# Altium footprint library CE_10.8X8.5MM.PcbLib: 1 footprints
Each footprint in its own frame and in the unit in brackets; x right, y up, seen from the top. Pads: shape width x height; smd on the part's side, far side on the other; paste and mask are expansions set on the pad; w line width, h text height; cw(c..) or ccw(c..) is an arc to the next point about the centre after c.
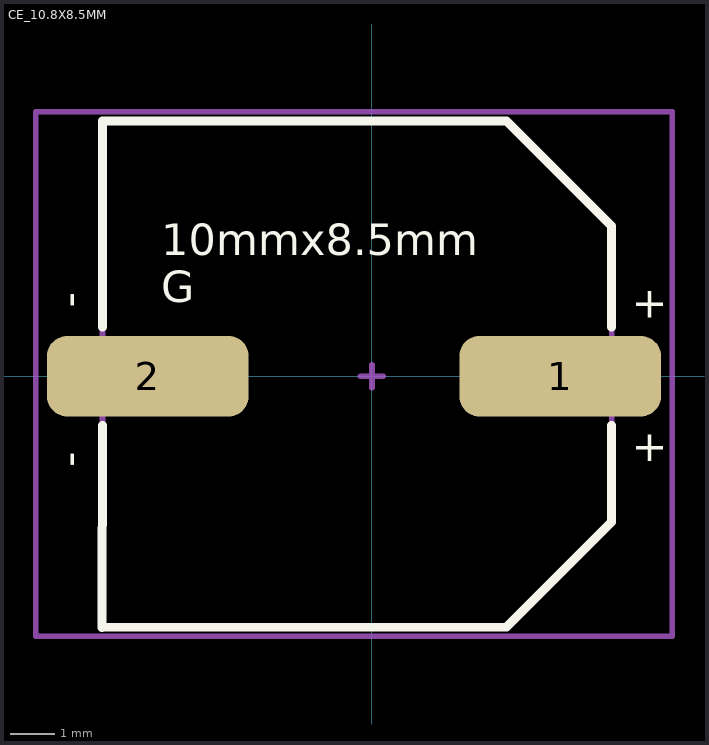
[diagram p0: the footprint, top view; thin cyan lines are the x and y axes]

## CE_10.8X8.5MM [mm] "Electrolytic Capacitor 10mm Diamater"
height 10
pads (2):
  rrect50% 4.5x1.8 smd: 1(4.2,0) 2(-5,0)
Top Overlay:
  lines w0.2: -6.014,-1.099 -6.02,-5.607 2.999,-5.602 5.35,-3.25 5.35,-1.1 ; -6.014,1.1 -6.014,5.7 3,5.7 5.35,3.35 5.35,1.1
  text "10mmx8.5mm / G" at -4.699,1.651 h0.7
  text "+" at 5.8,1.3 h0.7
  text "+" at 5.8,-1.9 h0.7
  text "-" at -6.415,1.524 h0.7
  text "-" at -6.415,-2.032 h0.7
Top Assembly:
  lines w0.127: -6.014,-5.607 2.993,-5.607 5.35,-3.25 5.35,3.375 3.025,5.7 -6.014,5.7 -6.014,-5.607
Top Courtyard:
  lines w0.127: -0.254,0 0.254,0 ; 0,-0.254 0,0.254 ; -7.5,-5.8 6.7,-5.8 6.7,5.9 -7.5,5.9 -7.5,-5.8
3D body "FC0H224ZFTBR24.step": height 8.21, standoff -0.3, extent -7,-5.5 6.2,5.5